# Altium footprint library XG_DW_POCT_2K10LED_V2.0_2024.11.151.PcbLib: 120 footprints (part 5 of 8)
Each footprint in its own frame and in the unit in brackets; x right, y up, seen from the top. Pads: shape width x height; smd on the part's side, far side on the other; paste and mask are expansions set on the pad; w line width, h text height; cw(c..) or ccw(c..) is an arc to the next point about the centre after c.
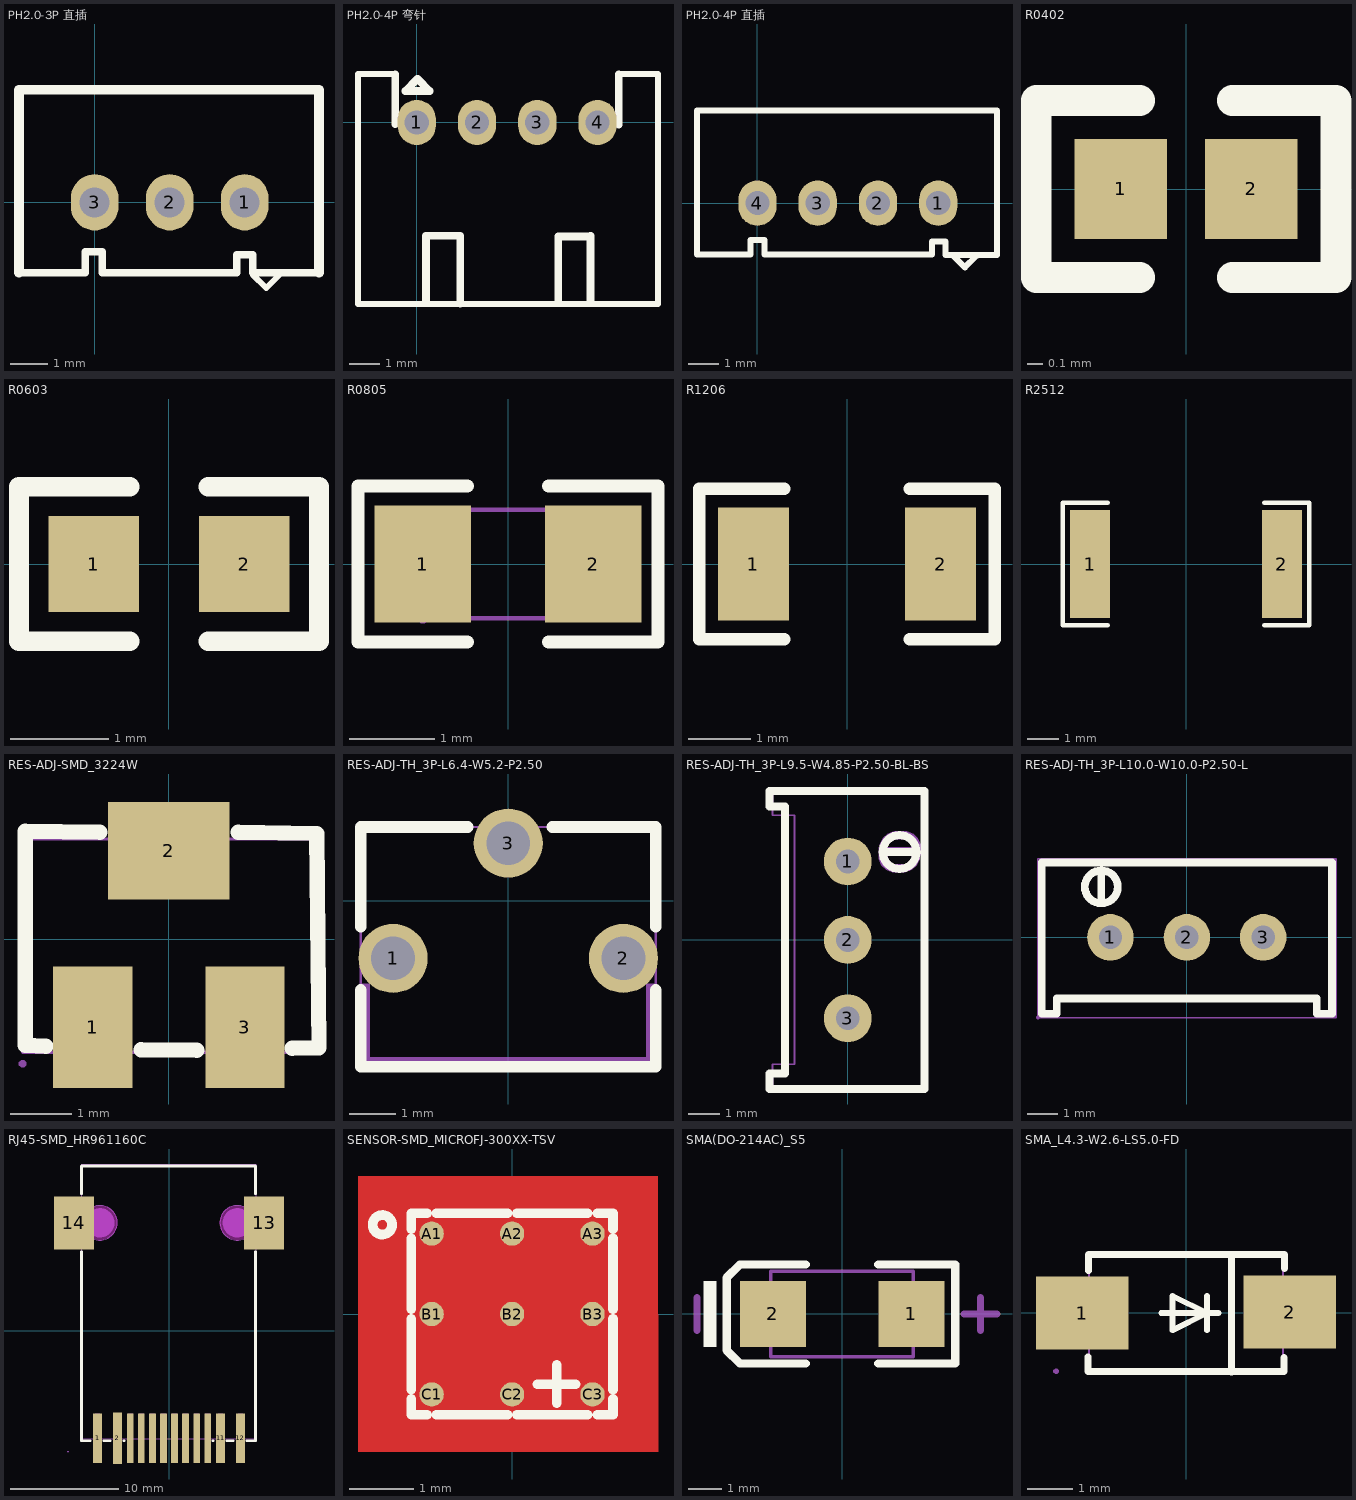
[diagram p4: the footprints below, top view; thin cyan lines are the x and y axes]

## PH2.0-3P 直插 [mm]
height 7.7
pads (3):
  oval 1.27x1.5 hole 0.8: 1(4,0) 2(2,0) 3(0,0)
Top Overlay:
  lines w0.152: 4.216,-1.88 4.216,-1.93 4.572,-2.286 4.953,-1.905
  lines w0.2: -2.02,-1.88 -0.254,-1.88 -0.254,-1.321 0.203,-1.321 0.203,-1.88 3.785,-1.88 3.785,-1.397 4.216,-1.397 4.216,-1.88 5.981,-1.88
  lines w0.254: -2.02,-1.88 -2.02,2.997 5.981,2.997 ; 5.981,-1.88 5.981,2.972

## PH2.0-4P 弯针 [mm]
height 7
pads (4):
  oval 1.27x1.5 hole 0.8: 1(0,0) 2(2,0) 3(4,0) 4(6,0)
Top Overlay:
  lines w0.2: -0.711,1.6 -1.95,1.6 -1.95,-6.02 8.007,-6.02 8.007,1.6 6.706,1.6
  lines w0.254: -0.711,-0.051 -0.711,1.6 ; 0.305,-5.994 0.305,-3.759 1.448,-3.759 1.448,-6.02 ; 4.699,-5.969 4.699,-3.785 5.74,-3.785 5.766,-3.759 5.766,-5.944 5.791,-5.969 ; 6.706,-0.076 6.706,1.6 ; -0.381,1.041 0.025,1.448 0.432,1.041 -0.381,1.041

## PH2.0-4P 直插 [mm]
pads (4):
  oval 1.27x1.5 hole 0.8: 1(6,0) 2(4,0) 3(2,0) 4(0,0)
Top Overlay:
  lines w0.2: 6.477,-1.727 6.883,-2.134 7.264,-1.753 ; -2.007,-1.702 -2.007,3.073 7.95,3.073 7.95,-1.727 6.248,-1.727 6.248,-1.27 5.791,-1.27 5.791,-1.702 0.229,-1.702 0.229,-1.219 -0.229,-1.219 -0.229,-1.702 -2.007,-1.702

## R0402 [mm]
pads (2):
  rect 0.6x0.65 smd mask+0.051: 1(-0.425,0) 2(0.425,0)
Top Overlay:
  lines w0.2: -0.3,-0.575 -0.975,-0.575 -0.975,0.575 -0.3,0.575 ; 0.3,-0.575 0.975,-0.575 0.975,0.575 0.3,0.575
3D body "User Library-RES_1005-0402.STEP": height 0.41, standoff 0, extent -0.575,-0.275 0.575,0.275

## R0603 [mm]
pads (2):
  rect 0.93x0.98 smd: 1(-0.77,0) 2(0.77,0)
Top Overlay:
  lines w0.2: -0.4,-0.79 -1.535,-0.79 -1.535,0.79 -0.4,0.79 ; 0.4,-0.79 1.535,-0.79 1.535,0.79 0.4,0.79
3D body "User Library-RES_1609-0603.STEP": height 0.56, standoff 0, extent -0.85,-0.4 0.85,0.4

## R0805 [mm]
pads (2):
  rect 1.133x1.377 smd paste-100 mask+0.051: 1(-1,0) 2(1,0)
Top Overlay:
  lines w0.152: -0.476,-0.917 -1.761,-0.917 -1.761,0.917 -0.476,0.917 ; 0.476,-0.917 1.761,-0.917 1.761,0.917 0.476,0.917
Top Paste:
  region: -1.7,-0.64 -1.7,0.64 -1.65,0.69 -0.5,0.69 -0.45,0.64 -0.445,0.23 -0.895,0.23 -0.895,-0.22 -0.455,-0.22 -0.45,-0.64 -0.5,-0.69 -1.65,-0.69
  region: 0.45,-0.64 0.45,-0.22 0.895,-0.22 0.895,0.23 0.455,0.23 0.45,0.64 0.5,0.69 1.65,0.69 1.7,0.64 1.7,-0.64 1.65,-0.69 0.5,-0.69
Mechanical 15:
  region: -1,-0.637 -1,0.637 -0.6,0.637 -0.6,-0.637
  region: 1,-0.637 1,0.637 0.6,0.637 0.6,-0.637
  region: -0.94,-0.638 -0.941,-0.613 -0.976,-0.579 -1.024,-0.579 -1.059,-0.613 -1.06,-0.638 -1.059,-0.662 -1.024,-0.696 -0.976,-0.696 -0.941,-0.662 -0.94,-0.638
  lines w0.051: -1,-0.637 -1,0.637 1,0.637 1,-0.637 -1,-0.637

## R1206 [mm]
pads (2):
  rect 1.13x1.8 smd: 1(-1.49,0) 2(1.49,0)
Top Overlay:
  lines w0.2: -1,-1.2 -2.355,-1.2 -2.355,1.2 -1,1.2 ; 1,-1.2 2.355,-1.2 2.355,1.2 1,1.2
3D body "User Library-RES_3216-1206.STEP": height 0.85, standoff 0, extent -1.7,-0.864 1.65,0.866

## R2512 [mm]
pads (2):
  rect 1.283x3.456 smd: 1(-3.066,0) 2(3.066,0)
Top Overlay:
  lines w0.152: -2.501,-1.957 -3.936,-1.957 -3.936,1.957 -2.501,1.957 ; 2.501,-1.957 3.936,-1.957 3.936,1.957 2.501,1.957
Top Paste:
  region: -2.425,-1.628 -2.425,-0.688 -2.525,-0.588 -2.761,-0.588 -2.861,-0.488 -2.861,0.488 -2.761,0.588 -2.525,0.588 -2.425,0.688 -2.425,1.628 -2.525,1.728 -3.608,1.728 -3.708,1.628 -3.708,-1.628 -3.608,-1.728 -2.525,-1.728
  region: 2.425,-1.628 2.425,-0.688 2.525,-0.588 2.761,-0.588 2.861,-0.488 2.861,0.488 2.761,0.588 2.525,0.588 2.425,0.688 2.425,1.628 2.525,1.728 3.608,1.728 3.708,1.628 3.708,-1.628 3.608,-1.728 2.525,-1.728

## RES-ADJ-SMD_3224W [mm]
pads (3):
  rect 1.3x2 smd: 1(-1.25,-1.45) 3(1.25,-1.45)
  rect 2x1.6 smd: 2(0,1.45)
Top Overlay:
  lines w0.254: -2.018,-1.759 -2.361,-1.748 -2.361,1.77 -1.138,1.755 ; -0.457,-1.816 0.457,-1.825 ; 1.143,1.754 2.427,1.732 2.465,-1.786 2.026,-1.792
Mechanical 6:
  circle w0.4: c-1.25,-1.54 r0.2
Mechanical 15:
  region: -2.4,-1.987 -2.425,-1.987 -2.46,-2.022 -2.46,-2.072 -2.425,-2.107 -2.4,-2.107 -2.375,-2.107 -2.34,-2.072 -2.34,-2.022 -2.375,-1.987 -2.4,-1.987
  region: -1.65,-2.047 -1.65,-1.047 -0.85,-1.047 -0.85,-2.047
  region: 0.85,-2.047 0.85,-1.047 1.65,-1.047 1.65,-2.047
  region: -0.65,0.839 -0.65,1.839 0.65,1.839 0.65,0.839
  lines w0.051: -2.4,-1.86 2.4,-1.86 2.4,1.64 -2.4,1.64 -2.4,-1.86

## RES-ADJ-TH_3P-L6.4-W5.2-P2.50 [mm]
pads (3):
  round 1.5 hole 0.95 paste+0 mask+0.05: 1(-2.5,-1.25) 2(2.5,-1.25) 3(0,1.25)
Top Overlay:
  lines w0.254: -3.2,-1.936 -3.2,-3.6 3.2,-3.6 3.2,-1.936 ; -3.2,-0.564 -3.2,1.6 -0.876,1.6 ; 0.956,1.6 3.2,1.6 3.2,-0.564
Mechanical 6:
  region: -3.2,-1.8 -3.2,-3.6 3.2,-3.6 3.2,-1.8 3,-1.8 3,-3.4 -3,-3.4 -3,-1.8
Mechanical 15:
  region: -3.14,-3.6 -3.14,-3.575 -3.175,-3.54 -3.225,-3.54 -3.26,-3.575 -3.26,-3.6 -3.26,-3.625 -3.225,-3.66 -3.175,-3.66 -3.14,-3.625 -3.14,-3.6
  region: -0.36,1.4 0.44,1.4 0.44,1.1 -0.36,1.1
  region: 2.1,-1.1 2.9,-1.1 2.9,-1.4 2.1,-1.4
  region: -2.9,-1.1 -2.1,-1.1 -2.1,-1.4 -2.9,-1.4
  lines w0.051: -3.2,-3.6 -3.2,1.6 3.2,1.6 3.2,-3.6 -3.2,-3.6

## RES-ADJ-TH_3P-L9.5-W4.85-P2.50-BL-BS [mil]
pads (3):
  round 60 hole 30: 1(0,98.42) 2(0,0) 3(0,-98.42)
Top Overlay:
  lines w10: 50,110.39 65,110.39 ; 86.2,110 cw(c64.99,110.19) 86.2,110.39 ; 96.46,-187.22 -96.46,-187.22 -98.42,-187.22 -98.42,-167.52 -78.74,-167.52 -78.74,167.52 -98.42,167.52 -98.42,187.01 -96.46,187.01 96.46,187.01 96.46,-187.01 ; 65,110.39 80,110.39 65,110.39
Mechanical 6:
  region: 61.02,126.38 58.87,126.17 54.9,124.52 51.86,121.48 50.21,117.5 50,115.35 39.76,115.35 40.19,119.64 44.02,127.36 50.32,133.22 58.29,136.49 62.6,136.61 70.08,136.61 74.31,136.61 82.12,133.38 88.1,127.4 91.34,119.58 91.34,115.35 90.94,115.75 80.31,115.75 80.11,117.82 78.52,121.65 75.59,124.59 71.76,126.17 69.69,126.38
  region: 69.29,94.88 71.44,95.09 75.42,96.74 78.46,99.78 80.1,103.76 80.31,105.91 90.55,105.91 90.12,101.62 86.3,93.9 79.99,88.03 72.02,84.77 67.72,84.64 60.24,84.64 56.01,84.64 48.19,87.88 42.21,93.86 38.98,101.68 38.98,105.91 39.37,105.51 50,105.51 50.21,103.44 51.79,99.61 54.72,96.67 58.56,95.09 60.63,94.88
  region: 38.58,106.3 90.16,106.3 91.34,106.3 91.34,115.35 91.34,115.51 91.22,115.8 91,116.02 90.71,116.14 90.55,116.14 39.37,116.14 38.98,116.53
Mechanical 15:
  region: -92.13,187.01 -92.13,187.99 -93.51,189.37 -95.47,189.37 -96.85,187.99 -96.85,187.01 -96.85,186.03 -95.47,184.65 -93.51,184.65 -92.13,186.03 -92.13,187.01
  region: 9.84,-98.42 9.81,-96.49 8.29,-92.93 5.53,-90.21 1.94,-88.74 -1.93,-88.74 -5.52,-90.2 -8.28,-92.92 -9.81,-96.48 -9.84,-98.42 -9.81,-100.36 -8.28,-103.92 -5.52,-106.64 -1.94,-108.11 1.94,-108.11 5.52,-106.64 8.29,-103.92 9.81,-100.36 9.84,-98.43
  region: 9.84,-0.01 9.81,1.93 8.29,5.49 5.53,8.21 1.94,9.68 -1.93,9.68 -5.52,8.22 -8.28,5.5 -9.81,1.94 -9.84,0 -9.81,-1.94 -8.28,-5.5 -5.52,-8.22 -1.94,-9.69 1.94,-9.69 5.52,-8.22 8.29,-5.5 9.81,-1.94 9.84,-0.01
  region: 9.84,98.42 9.81,100.36 8.29,103.92 5.53,106.64 1.94,108.11 -1.93,108.11 -5.52,106.65 -8.28,103.93 -9.81,100.37 -9.84,98.43 -9.81,96.49 -8.28,92.93 -5.52,90.21 -1.94,88.74 1.94,88.74 5.52,90.21 8.29,92.93 9.81,96.49 9.84,98.42
  lines w2: -94.49,-187.01 94.49,-187.01 94.49,187.01 -94.49,187.01 -94.49,156.3 -66.93,156.3 -66.93,-156.3 -94.49,-156.3 -94.49,-187.01

## RES-ADJ-TH_3P-L10.0-W10.0-P2.50-L [mil]
pads (3):
  round 60 hole 30: 1(-98.42,0) 2(0,0) 3(98.42,0)
Top Overlay:
  lines w10: -110.39,50 -110.39,65 ; -110.39,86.2 ccw(c-110.19,64.99) -110,86.2 ; 187.01,96.46 -187.01,96.46 -187.01,-96.46 -187.01,-98.42 -167.52,-98.42 -167.52,-78.74 167.52,-78.74 167.52,-98.42 187.22,-98.42 187.22,-96.46 187.22,96.46 ; -110.39,65 -110.39,80 -110.39,65
Mechanical 15:
  region: -189.65,-103.42 -189.65,-102.45 -191.03,-101.06 -192.99,-101.07 -194.37,-102.45 -194.37,-103.43 -194.37,-104.41 -192.98,-105.79 -191.03,-105.79 -189.65,-104.4 -189.65,-103.42
  region: 109.49,0 109.49,2.2 107.8,6.27 104.69,9.38 100.63,11.06 96.22,11.06 92.16,9.38 89.04,6.27 87.36,2.2 87.36,0 87.36,-2.2 89.04,-6.27 92.16,-9.38 96.22,-11.06 100.62,-11.06 104.69,-9.38 107.8,-6.27 109.49,-2.2 109.49,0
  region: -87.36,0 -87.36,2.2 -89.05,6.27 -92.16,9.38 -96.22,11.06 -100.63,11.06 -104.69,9.38 -107.81,6.27 -109.49,2.2 -109.49,0 -109.49,-2.2 -107.81,-6.27 -104.69,-9.38 -100.63,-11.06 -96.23,-11.06 -92.16,-9.38 -89.05,-6.27 -87.36,-2.2 -87.36,0
  region: 11.07,0 11.07,2.2 9.38,6.27 6.27,9.38 2.21,11.06 -2.2,11.06 -6.26,9.38 -9.38,6.27 -11.06,2.2 -11.06,0 -11.06,-2.2 -9.38,-6.27 -6.26,-9.38 -2.2,-11.06 2.2,-11.06 6.27,-9.38 9.38,-6.27 11.07,-2.2 11.07,0
  lines w2: -192.01,-103.42 -192.01,101.46 192.22,101.46 192.22,-103.42 -192.01,-103.42

## RJ45-SMD_HR961160C [mm]
pads (14):
  rect 0.81x4.6 smd: 1(-6.61,-9.961) 11(4.77,-9.961) 12(6.61,-9.961)
  rect 0.81x4.77 smd: 2(-4.77,-9.961)
  rect 0.61x4.6 smd: 3(-3.57,-9.961) 4(-2.55,-9.961) 5(-1.53,-9.961) 6(-0.51,-9.961) 7(0.51,-9.961) 8(1.53,-9.961) 9(2.55,-9.961) 10(3.57,-9.961)
  rect 3.7x4.9 smd: 13(8.799,9.961) 14(-8.799,9.961)
Top Overlay:
  lines w0.254: -8.09,7.28 -8.09,-10.189 -7.284,-10.189 ; -8.09,12.642 -8.09,15.211 8.01,15.211 8.01,12.642 ; -6.012,-10.189 -5.446,-10.189 ; -4.174,-10.189 -4.15,-10.189 ; 4.078,-10.189 4.103,-10.189 ; 5.375,-10.189 5.942,-10.189 ; 7.214,-10.189 8.01,-10.189 8.01,7.28
Keep-Out Layer:
  board cut-out: -4.791,9.961 -4.791,10.119 -4.853,10.428 -4.973,10.719 -5.148,10.981 -5.371,11.204 -5.633,11.379 -5.924,11.5 -6.233,11.561 -6.549,11.561 -6.858,11.5 -7.149,11.379 -7.411,11.204 -7.634,10.981 -7.809,10.719 -7.93,10.428 -7.991,10.119 -7.991,9.961 -7.991,9.804 -7.93,9.495 -7.809,9.203 -7.634,8.941 -7.411,8.718 -7.149,8.543 -6.858,8.423 -6.549,8.361 -6.233,8.361 -5.924,8.423 -5.633,8.543 -5.371,8.718 -5.148,8.941 -4.973,9.203 -4.853,9.495 -4.791,9.804 -4.791,9.961
  board cut-out: 7.909,9.961 7.909,10.119 7.847,10.428 7.727,10.719 7.552,10.981 7.329,11.204 7.067,11.379 6.776,11.5 6.467,11.561 6.151,11.561 5.842,11.5 5.551,11.379 5.289,11.204 5.066,10.981 4.891,10.719 4.77,10.428 4.709,10.119 4.709,9.961 4.709,9.804 4.77,9.495 4.891,9.203 5.066,8.941 5.289,8.718 5.551,8.543 5.842,8.423 6.151,8.361 6.467,8.361 6.776,8.423 7.067,8.543 7.329,8.718 7.552,8.941 7.727,9.203 7.847,9.495 7.909,9.804 7.909,9.961
Mechanical 1:
  circle w0.005: c-6.391,9.961 r1.6
  circle w0.005: c6.309,9.961 r1.6
Mechanical 6:
  circle w1.35: c-6.391,9.961 r0.675
  circle w1.35: c6.309,9.961 r0.675
Mechanical 15:
  region: -9.279,-11.211 -9.279,-11.186 -9.314,-11.151 -9.364,-11.151 -9.399,-11.186 -9.399,-11.211 -9.399,-11.236 -9.364,-11.271 -9.314,-11.271 -9.279,-11.236 -9.279,-11.211
  region: -9.339,11.861 -8.039,11.861 -8.039,8.061 -9.339,8.061
  region: 8.039,11.861 9.339,11.861 9.339,8.061 8.039,8.061
  region: 6.41,-7.711 6.81,-7.711 6.81,-11.211 6.41,-11.211
  region: 4.57,-7.711 4.97,-7.711 4.97,-11.211 4.57,-11.211
  region: 3.37,-7.711 3.77,-7.711 3.77,-11.211 3.37,-11.211
  region: 2.35,-7.711 2.75,-7.711 2.75,-11.211 2.35,-11.211
  region: 1.33,-7.711 1.73,-7.711 1.73,-11.211 1.33,-11.211
  region: 0.31,-7.711 0.71,-7.711 0.71,-11.211 0.31,-11.211
  region: -0.71,-7.711 -0.31,-7.711 -0.31,-11.211 -0.71,-11.211
  region: -1.73,-7.711 -1.33,-7.711 -1.33,-11.211 -1.73,-11.211
  region: -2.75,-7.711 -2.35,-7.711 -2.35,-11.211 -2.75,-11.211
  region: -3.77,-7.711 -3.37,-7.711 -3.37,-11.211 -3.77,-11.211
  region: -4.97,-7.711 -4.57,-7.711 -4.57,-11.211 -4.97,-11.211
  region: -6.81,-7.711 -6.41,-7.711 -6.41,-11.211 -6.81,-11.211
  lines w0.051: -8.05,-10 -8.05,15.4 8.05,15.4 8.05,-10 -8.05,-10

## SENSOR-SMD_MICROFJ-300XX-TSV [mil]
pads (9):
  round 15 smd paste+0 mask+4: A1(-49.61,49.61) A2(0,49.61) A3(49.61,49.61) B1(-49.61,0) B2(0,0) B3(49.61,0) C1(-49.61,-49.61) C2(0,-49.61) C3(49.61,-49.61)
Top Layer:
  pour cut-out: -95,85 90,85 90,-85 -95,-85
Top Overlay:
  circle w5.98: c-80,55 r6
  lines w5.98: -62.2,-52.47 -62.2,-62.2 -52.47,-62.2 ; -62.2,-46.75 -62.2,-2.86 ; -62.2,2.86 -62.2,46.75 ; -62.2,52.47 -62.2,62.2 -52.47,62.2 ; -46.75,-62.2 -2.86,-62.2 ; -46.75,62.2 -2.86,62.2 ; 2.86,-62.2 46.75,-62.2 ; 2.86,62.2 46.75,62.2 ; 15.74,-43.31 39.37,-43.31 ; 27.56,-55.12 27.56,-31.5 ; 52.47,-62.2 62.2,-62.2 62.2,-52.47 ; 52.47,62.2 62.2,62.2 62.2,52.47 ; 62.2,-46.75 62.2,-2.86 ; 62.2,2.86 62.2,46.75
Mechanical 6:
  circle w14: c-80,55 r7
  region: 23.62,-31.5 23.62,-55.12 31.5,-55.12 31.5,-31.5
  region: 15.75,-47.24 15.75,-39.37 39.37,-39.37 39.37,-47.24
Mechanical 15:
  region: -44.49,49.61 -44.49,51.73 -47.49,54.73 -51.73,54.73 -54.73,51.74 -54.73,49.62 -54.73,47.49 -51.73,44.49 -47.49,44.49 -44.49,47.49 -44.49,49.61
  region: 5.12,49.61 5.12,51.73 2.12,54.73 -2.12,54.73 -5.12,51.74 -5.12,49.62 -5.12,47.49 -2.12,44.49 2.12,44.49 5.12,47.49 5.12,49.61
  region: 54.73,49.61 54.73,51.73 51.73,54.73 47.49,54.73 44.49,51.74 44.49,49.62 44.49,47.49 47.49,44.49 51.73,44.49 54.73,47.49 54.73,49.61
  region: -44.49,0 -44.49,2.12 -47.49,5.12 -51.73,5.12 -54.73,2.13 -54.73,0.01 -54.73,-2.12 -51.73,-5.12 -47.49,-5.12 -44.49,-2.12 -44.49,0
  region: 5.12,0 5.12,2.12 2.12,5.12 -2.12,5.12 -5.12,2.13 -5.12,0.01 -5.12,-2.12 -2.12,-5.12 2.12,-5.12 5.12,-2.12 5.12,0
  region: 54.73,0 54.73,2.12 51.73,5.12 47.49,5.12 44.49,2.13 44.49,0.01 44.49,-2.12 47.49,-5.12 51.73,-5.12 54.73,-2.12 54.73,0
  region: -44.49,-49.61 -44.49,-47.49 -47.49,-44.49 -51.73,-44.49 -54.73,-47.48 -54.73,-49.6 -54.73,-51.73 -51.73,-54.73 -47.49,-54.73 -44.49,-51.73 -44.49,-49.61
  region: 5.12,-49.61 5.12,-47.49 2.12,-44.49 -2.12,-44.49 -5.12,-47.48 -5.12,-49.6 -5.12,-51.73 -2.12,-54.73 2.12,-54.73 5.12,-51.73 5.12,-49.61
  region: 54.73,-49.61 54.73,-47.49 51.73,-44.49 47.49,-44.49 44.49,-47.48 44.49,-49.6 44.49,-51.73 47.49,-54.73 51.73,-54.73 54.73,-51.73 54.73,-49.61
  region: -59.84,62.2 -59.86,63.16 -61.23,64.51 -63.16,64.52 -64.54,63.17 -64.56,62.2 -64.54,61.24 -63.17,59.89 -61.24,59.89 -59.86,61.24 -59.84,62.2
  lines w2: -62.2,-62.2 62.2,-62.2 62.2,62.2 -62.2,62.2 -62.2,-62.2

## SMA(DO-214AC)_S5 [mm]
height 7.7
pads (2):
  rect 2x2 smd: 1(2.1,0) 2(-2.1,0)
Top Overlay:
  rectangle: -4.203,-1.001 -3.803,0.999
  lines w0.254: -1.1,-1.5 -3.1,-1.5 -3.5,-1.1 -3.5,1.1 -3.1,1.5 -1.1,1.5 ; 1.1,-1.5 3.431,-1.5 3.431,1.5 1.1,1.5
Mechanical 13:
  lines w0.1: -2.16,-1.3 -2.16,1.3 2.16,1.3 2.16,-1.3 -2.16,-1.3
Mechanical 15:
  lines w0.203: -4.4,-0.5 -4.4,0.5 ; 3.7,0 4.7,0 ; 4.2,-0.5 4.2,0.5

## SMA_L4.3-W2.6-LS5.0-FD [mm]
pads (2):
  rect 2.046x1.62 smd: 1(-2.304,-0.009) 2(2.304,0.009)
Top Overlay:
  lines w0.127: -0.551,-0.01 0.719,-0.01 ; 0.465,-0.391 0.465,-0.01 ; 0.465,0.371 0.465,-0.01 ; 0.465,-0.01 -0.297,-0.391 -0.297,-0.01 -0.297,0.371 0.465,-0.01
  lines w0.152: -2.17,-0.979 -2.17,-1.309 2.177,-1.309 2.177,-0.998 ; -2.16,0.93 -2.16,1.288 2.186,1.288 2.186,0.977 ; 1.007,-1.321 1.007,1.276
Mechanical 6:
  region: -2.142,0.644 -2.142,-0.644 -1.949,-0.644 -1.949,0.644
  region: -2.432,0.097 -2.432,-0.097 -1.659,-0.097 -1.659,0.097
  region: 2.432,0.097 2.432,-0.097 1.659,-0.097 1.659,0.097
Mechanical 15:
  region: -2.819,-1.3 -2.819,-1.275 -2.854,-1.24 -2.904,-1.24 -2.939,-1.275 -2.939,-1.3 -2.939,-1.325 -2.904,-1.36 -2.854,-1.36 -2.819,-1.325 -2.819,-1.3
  region: 2.5,0.734 2.5,-0.716 1.35,-0.716 1.35,0.734
  region: -2.5,-0.734 -2.5,0.716 -1.35,0.716 -1.35,-0.734
  lines w0.051: -2.15,-1.3 -2.15,1.3 2.15,1.3 2.15,-1.3 -2.15,-1.3